# EAGLE library part CAT16_49R9F4LF (library LAN9252)
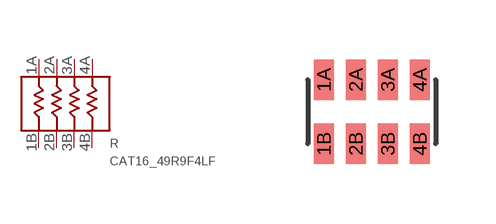
[diagram p2: symbol with the pads of CAT16-49R9F4LF; footprint CAT16-49R9F4LF]

Designator prefix R

## CAT16_49R9F4LF  [CAT16-49R9F4LF]
1A  1A
1B  1B
2A  2A
2B  2B
3A  3A
3B  3B
4A  4A
4B  4B

## Footprint CAT16-49R9F4LF (pad centres in mm)
smd 0.5 x 1: 1A -1.2,0.8; 1B -1.2,-0.8; 2A -0.4,0.8; 2B -0.4,-0.8; 3A 0.4,0.8; 3B 0.4,-0.8; 4A 1.2,0.8; 4B 1.2,-0.8